# Altium schematic symbol library AltiumLibrary.SchLib: 67 symbols
Pins are listed as number, name and electrical type; pins without a type are passive.

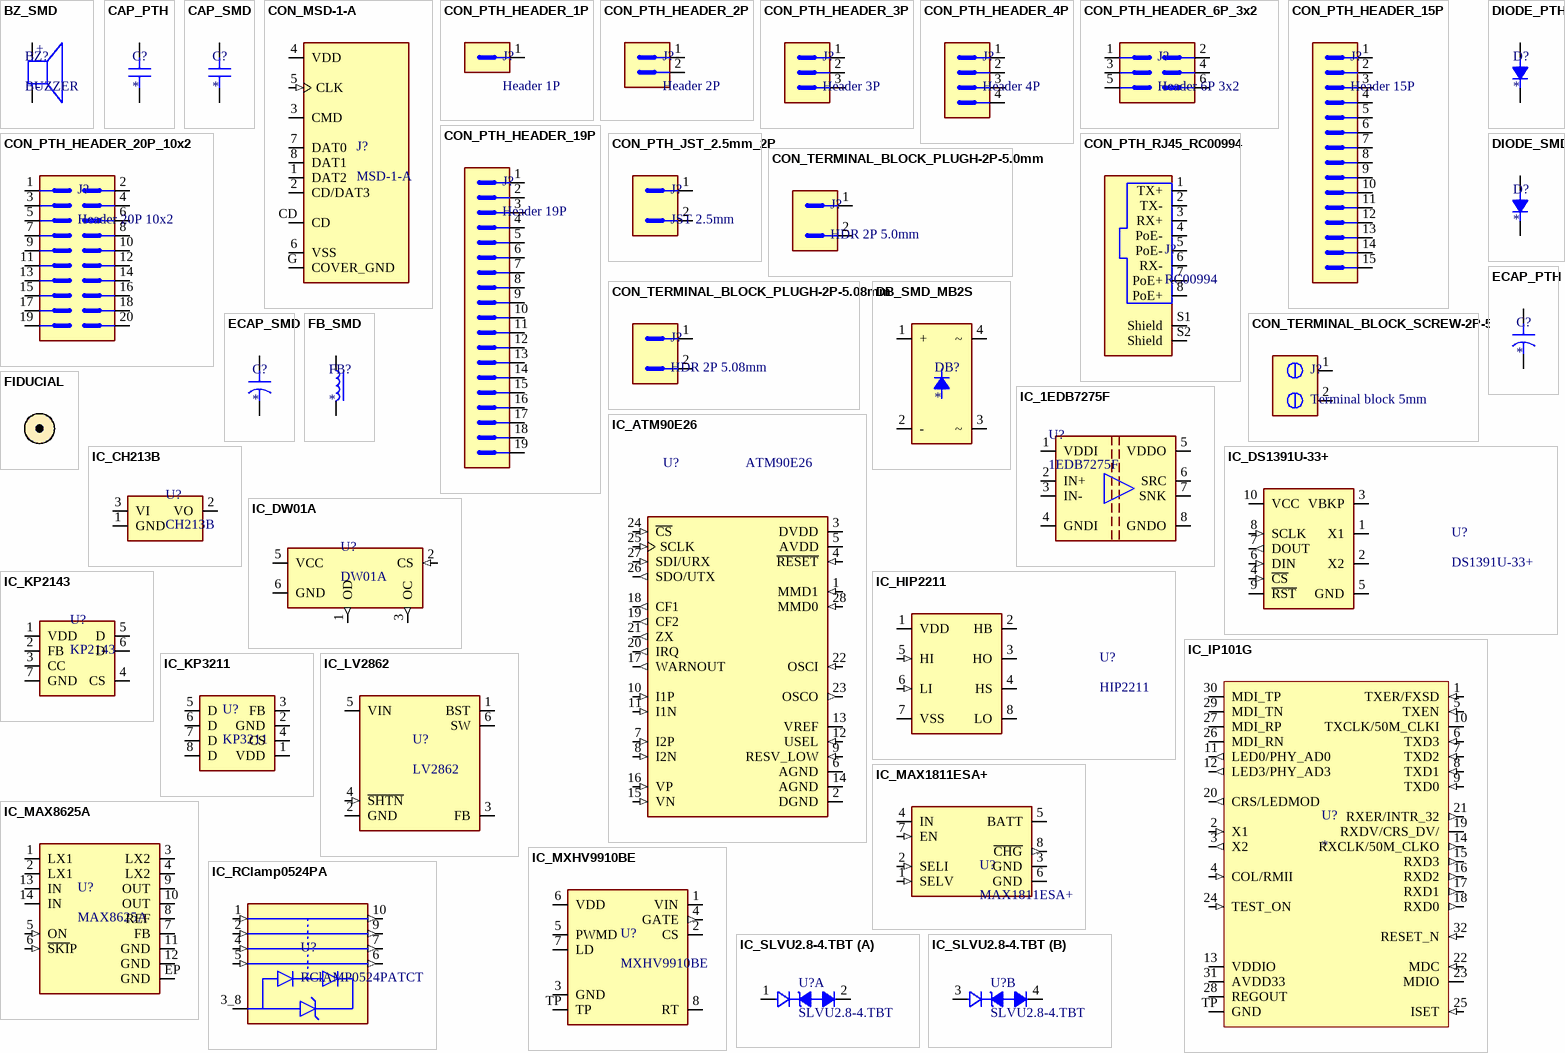
[diagram p0: symbols BZ_SMD to IC_SLVU2.8-4.TBT]

## BZ_SMD
designator BZ?, comment BUZZER
Buzzer SMD - Generic
footprint BZ_SMD_12x12mm (Buzzer SMD 12x12mm)
pins: N, P
text: +; -

## CAP_PTH
designator C?
Capacitor PTH - Generic
footprint CAP_PTH_5.08x3.2mm_5.08mm (PTH radial capacitor, 2-Leads, Body 5.08x3.2mm, 5.08 lead spacing)
pins: 1, 2

## CAP_SMD
designator C?
Capacitor SMD - Generic
footprint CAP_SMD_0603 (0603 Chip Capacitor, 2-Leads, Body 1,60x0,80mm, IPC Medium Density)
footprint CAP_SMD_1812 (1812 Chip Capacitor, 2-Leads, Body 4,5x3,2mm, IPC Medium Density)
footprint CAP_SMD_1206 (1206 Chip Capacitor, 2-Leads, Body 3,20x1,60mm, IPC Medium Density)
footprint CAP_SMD_1210 (1210 Chip Capacitor, 2-Leads, Body 3,20x2,50mm, IPC Medium Density)
footprint CAP_SMD_0805 (0805 Chip Capacitor, 2-Leads, Body 2x1,25mm, IPC Medium Density)
footprint CAP_SMD_CY_250Vac (Y safety capacitor non standard package 7.8x5.4x2.54mm)
pins: 1, 2

## CON_MSD-1-A
designator J?, comment MSD-1-A
Micro SD Card Connector, 9 Positions, Connector and Ejector, Push In, Auto Eject Out, Surface Mount, 1.8 mm Height Above Board, Gold Flash; MF: Same Sky; SnapEDA_Link: https://www.snapeda.com/parts/MSD-1-A/Same+Sky/view-part/?ref=snap; Package: None; Value: *; MP: MSD-1-A; Check_prices: https://www.snapeda.com/parts/MSD-1-A/Same+Sky/view-part/?ref=eda
footprint CON_MSD-1_CUD (MicroSD card slot)
pins: 1 DAT2 (io), 2 CD/DAT3 (io), 3 CMD (io), 4 VDD (power), 5 CLK (in), 6 VSS (power), 7 DAT0 (io), 8 DAT1 (io), CD, G COVER_GND (power)

## CON_PTH_HEADER_1P
designator J?, comment Header 1P
1P PTH pin header - Generic
footprint CON_PTH_1P_HEADER_2.54mm (1P PTH male pin header. 2.54mm pitch)
pins: 1

## CON_PTH_HEADER_2P
designator J?, comment Header 2P
2P PTH pin header - Generic
footprint CON_PTH_2P_HEADER_2.54mm (2P PTH male pin header. 2.54mm pitch)
pins: 1, 2

## CON_PTH_HEADER_3P
designator J?, comment Header 3P
3P PTH pin header - Generic
footprint CON_PTH_3P_HEADER_2.54mm (3P PTH male pin header. 2.54mm pitch)
pins: 1, 2, 3

## CON_PTH_HEADER_4P
designator J?, comment Header 4P
4P PTH pin header - Generic
footprint CON_PTH_4P_HEADER_2.54mm (4P PTH male pin header. 2.54mm pitch)
footprint CON_PTH_4P_HEADER_2.54mm_90 (4P PTH male pin header. 2.54mm pitch 90 degrees)
pins: 1, 2, 3, 4

## CON_PTH_HEADER_6P_3x2
designator J?, comment Header 6P 3x2
3x2 6P PTH pin header - Generic
footprint CON_PTH_6P_HEADER_3x2_2.54mm (3x2 6P PTH male pin header. 2.54mm pitch)
pins: 1, 2, 3, 4, 5, 6

## CON_PTH_HEADER_15P
designator J?, comment Header 15P
15P PTH pin header - Generic
footprint CON_PTH_15P_HEADER_2.54mm (15P PTH male pin header. 2.54mm pitch)
pins: 1, 2, 3, 4, 5, 6, 7, 8, 9, 10, 11, 12, 13, 14, 15

## CON_PTH_HEADER_19P
designator J?, comment Header 19P
19P PTH pin header - Generic
footprint CON_PTH_19P_HEADER_2.54mm (19P PTH male pin header. 2.54mm pitch)
pins: 1, 2, 3, 4, 5, 6, 7, 8, 9, 10, 11, 12, 13, 14, 15, 16, 17, 18, 19

## CON_PTH_HEADER_20P_10x2
designator J?, comment Header 20P 10x2
10x2 20P PTH pin header - Generic
footprint CON_PTH_20P_HEADER_10x2_2.54mm (10x2 20P PTH male pin header. 2.54mm pitch)
footprint CON_PTH_20P_HEADER_10x2_2.54mm_FEMALE (10x2 20P PTH female pin header. 2.54mm pitch)
pins: 1, 2, 3, 4, 5, 6, 7, 8, 9, 10, 11, 12, 13, 14, 15, 16, 17, 18, 19, 20

## CON_PTH_JST_2.5mm_2P
designator J?, comment JST 2.5mm
2.5mm pitch 2P JST connector
footprint CON_JST_S2B-XH-A
pins: 1, 2

## CON_PTH_RJ45_RC00994
designator J?, comment RC00994
RC00994 RJ45 connector - No LEDs
footprint CON_PTH_RJ45_RC00994 (RC00994 RJ45 Connector)
pins: 1 TX+, 2 TX-, 3 RX+, 4 PoE-, 5 PoE-, 6 RX-, 7 PoE+, 8 PoE+, S1 Shield, S2 Shield

## CON_TERMINAL_BLOCK_PLUGH-2P-5.0mm
designator J?, comment HDR 2P 5.0mm
5.0mm pitch 2P plugin terminal block
footprint CON_TERM_BLOCK_HDR_2POS_5MM - duplicate (2 Position Terminal Block Header, Male Pins, Shrouded (4 Side) 5.0mm 90°, Right Angle Through Hole)
pins: 1, 2

## CON_TERMINAL_BLOCK_PLUGH-2P-5.08mm
designator J?, comment HDR 2P 5.08mm
5.08mm pitch 2P plugin terminal block
footprint CON_TERM_BLOCK_HDR_2POS_5.08MM (2 Position Terminal Block Header, Male Pins, Shrouded (4 Side) 0.200" (5.08mm) 90°, Right Angle Through Hole)
pins: 1, 2

## CON_TERMINAL_BLOCK_SCREW-2P-5mm
designator J?, comment Terminal block 5mm
5mm pitch 2P screw terminal block
footprint CON_SCREW_5mm
pins: 1, 2

## DB_SMD_MB2S
designator DB?
200V 0.5A Miniature Glass Passivated Fast Recovery Surface-Mount Bridge Rectifier; MF: Fortune Semiconductor; MP: DW01A; SnapEDA_Link: https://www.snapeda.com/parts/DW01A/Fortune+Semiconductor/view-part/?ref=snap; Package: SOT-23-6 Fortune Semiconductor; Value: *; Check_prices: https://www.snapeda.com/parts/DW01A/Fortune+Semiconductor/view-part/?ref=eda
footprint IC_MBS
pins: 1 + (power), 2 - (power), 3 ~ (power), 4 ~ (power)

## DIODE_PTH
designator D?
PTH diode - Generic
footprint D_PTH_DO41_10mm (Generic DO41 PTH diode - 10.08mm lead spacing)
pins: A, K

## DIODE_SMD
designator D?
SMD diode - Generic
footprint D_SMD_SMA (Molded Diode, 2-Leads, Body 5,20x2,73mm, IPC Medium Density)
footprint IC_TO252 (Generic TO252 package 6.35x9.4mm); pin to pad A>1+3 K>2
footprint D_SMD_SMC
footprint D_SMD_SOD323
footprint D_SMD_SOD123W
pins: A, K

## ECAP_PTH
designator C?
Electrolytic Capacitor PTH - Generic
footprint CAP_PTH_10x16H_L (Electrolytic Capacitor 10mm Dia x 16mm - Radial Thru Hole - Horizontal - Negative left side)
footprint CAP_PTH_10x16H_R (Electrolytic Capacitor 10mm Dia x 16mm - Radial Thru Hole - Horizontal - Negative right side)
footprint CAP_PTH_8x16H_R (Electrolytic Capacitor 8mm Dia x 16mm - Radial Thru Hole - Horizontal - Negative right side)
footprint CAP_PTH_8x16H_L (Electrolytic Capacitor 8mm Dia x 16mm - Radial Thru Hole - Horizontal - Negative left side)
footprint CAP_PTH_6x12H_L (Electrolytic Capacitor 6mm Dia x 12mm - Radial Thru Hole - Horizontal - Negative left side)
footprint CAP_PTH_6x12H_R (Electrolytic Capacitor 6mm Dia x 12mm - Radial Thru Hole - Horizontal - Negative right side)
pins: 1, 2

## ECAP_SMD
designator C?
Electrolytic Capacitor SMD - Generic
footprint CAP_SMD_8x13H_L (Electrolytic Capacitor 8mm Dia x 13mm - Radial SMD soldered - Horizontal - Negative left side)
footprint CAP_SMD_8x13H_R (Electrolytic Capacitor 8mm Dia x 13mm - Radial SMD soldered - Horizontal - Negative right side)
footprint CAP_SMD_D6.3xL8_E83 (Aluminum Electrolytic Capacitor, Body D6.3mm x L8.00mm, IPC Low Density)
pins: 1, 2

## FB_SMD
designator FB?
Ferrite bead SMD - Generic
footprint FB_SMD_0805 (0805 Ferrite Bead, 2-Leads, Body 2,00x1,20mm, IPC Medium Density)
pins: 1, 2

## FIDUCIAL
designator *  (value not drawn)  (no BOM)
1mm fiducial marker
footprint FIDUCIAL

## IC_1EDB7275F
designator U?, comment 1EDB7275F
Single-channel isolated gate driver ICs in 150 mil DSO package; Datasheet: https://g.recomcdn.com/media/Datasheet/pdf/.fr9r4tDZ/.tfbaaea98a77234de645a/Datasheet-8/RK_RH.pdf
footprint IC_SOIC8 (Generic SOIC8 package)
pins: 1 VDDI, 2 IN+, 3 IN-, 4 GNDI, 5 VDDO, 6 SRC, 7 SNK, 8 GNDO

## IC_ATM90E26
designator U?, comment ATM90E26
Single phase Metering IC SSOP-28; PartGroup: Integrated Circuits,MCU, MPU, DSP,Other; Manufacturer: ATMEL; Value: ATM90E26; MPN: ATM90E26; ComponentLink1Description: Datasheet; ComponentLink1URL: http://www.microchip.com/mymicrochip/filehandler.aspx?ddocname=en590041; Cod: *
footprint IC_SSOP28 (SSOP-28 Package)
pins: 1 MMD1 (in), 2 DGND (power), 3 DVDD (power), 4 ~{RESET} (in), 5 AVDD (power), 6 AGND (power), 7 I2P (in), 8 I2N (in), 9 RESV_LOW (in), 10 I1P (in), 11 I1N (in), 12 USEL (in), 13 VREF (power), 14 AGND (power), 15 VN (in), 16 VP (in), 17 WARNOUT (out), 18 CF1 (out), 19 CF2 (out), 20 IRQ (out), 21 ZX (out), 22 OSCI (in), 23 OSCO (out), 24 ~{CS} (in), 25 SCLK (in), 26 SDO/UTX (out), 27 SDI/URX (in), 28 MMD0 (in)

## IC_CH213B
designator U?, comment CH213B
5V*0.5A low voltage drop diode chip CH213; ComponentLink1Description: Datasheet; ComponentLink1URL: https://akizukidenshi.com/goodsaffix/CH213.pdf
footprint IC_SOT23
pins: 1 GND (power), 2 VO (power), 3 VI (power)

## IC_DS1391U-33+
designator U?, comment DS1391U-33+
Low-Voltage SPI/3-Wire RTCs with Trickle Charger; Datasheet: https://www.analog.com/media/en/technical-documentation/data-sheets/DS1390-DS1394.pdf
footprint IC_uSOP10_3x3mm (TSSOP, 10-Leads, Body 2,95x3,00mm, Pitch 0,50mm, IPC Medium Density)
pins: 1 X1, 2 X2, 3 VBKP (power), 4 ~{CS} (in), 5 GND (power), 6 DIN (in), 7 DOUT (out), 8 SCLK (in), 9 ~{RST} (oc), 10 VCC (power)

## IC_DW01A
designator U?, comment DW01A
One Cell Lithium-ion/Polymer Battery Protection IC; MF: Fortune Semiconductor; SnapEDA_Link: https://www.snapeda.com/parts/DW01A/Fortune+Semiconductor/view-part/?ref=snap; Package: SOT-23-6 Fortune Semiconductor; Value: *; MP: DW01A; Check_prices: https://www.snapeda.com/parts/DW01A/Fortune+Semiconductor/view-part/?ref=eda
footprint IC_SOT23_6
pins: 1 OD (out), 2 CS (in), 3 OC (out), 5 VCC (power), 6 GND (power)

## IC_HIP2211
designator U?, comment HIP2211
100V, 3A Source, 4A Sink, High Frequency Half-Bridge Drivers with HI/LI; Datasheet: https://www.analog.com/media/en/technical-documentation/data-sheets/DS1390-DS1394.pdf
footprint IC_TDFN10 (Generic TDFN10 package 4x4mm)
pins: 1 VDD (power), 2 HB (power), 3 HO, 4 HS, 5 HI (in), 6 LI (in), 7 VSS (power), 8 LO

## IC_IP101G
designator U?
Single Port 10/100 MII/RMII/TP/Fiber Fast Ethernet Transceiver
footprint IC_QFN32_4x4
pins: 1 TXER/FXSD (in), 2 X1 (in), 3 X2 (out), 4 COL/RMII (in), 5 TXEN (in), 6 TXD3 (in), 7 TXD2 (in), 8 TXD1 (in), 9 TXD0 (in), 10 TXCLK/50M_CLKI (io), 11 LED0/PHY_AD0  (out), 12 LED3/PHY_AD3 (out), 13 VDDIO, 14 RXCLK/50M_CLKO (out), 15 RXD3 (out), 16 RXD2 (out), 17 RXD1 (out), 18 RXD0 (out), 19 RXDV/CRS_DV/ (io), 20 CRS/LEDMOD (out), 21 RXER/INTR_32 (out), 22 MDC (in), 23 MDIO (io), 24 TEST_ON (in), 25 ISET (in), 26 MDI_RN (io), 27 MDI_RP (io), 28 REGOUT, 29 MDI_TN (io), 30 MDI_TP (io), 31 AVDD33, 32 RESET_N (in), TP GND

## IC_KP2143
designator U?, comment KP2143
Multi-mode, constant voltage and constant current primary-side control power switch with high-voltage start-up; Datasheet: https://www.lcsc.com/datasheet/C2692153.pdf?spm=wm.fly.bg.0.pdf&lcsc_vid=FVlYAwBeFlJWBFQERQIMUlIARABcUwBRRARcVFQHQ1AxVlNeRlFcUFBRRllbVzsOAxUeFF5JWBYZEEoKFBINSQcJGk4NBhADEA4cHktXR1FdSQwSGg0%3D
footprint IC_SOIC7 (Generic SOIC7 package)
pins: 1 VDD, 2 FB, 3 CC, 4 CS, 5 D, 6 D, 7 GND

## IC_KP3211
designator U?, comment KP3211
KP3211 High Performance Low Cost Off-line PWM Power Switch; Datasheet: https://taoic.oss-cn-hangzhou.aliyuncs.com/7860/product/xiaoliu888_1621658385000.pdf
footprint IC_SOIC8
pins: 1 VDD, 2 GND, 3 FB, 4 CS, 5 D, 6 D, 7 D, 8 D

## IC_LV2862
designator U?, comment LV2862
Buck converter controller; Datasheet: https://www.littelfuse.com/assetdocs/littelfuse-integrated-circuits-mxhv9910-datasheet?assetguid=0135616d-093f-45d8-8766-b0e533f2ef99
footprint IC_SOT23_6
pins: 1 BST (power), 2 GND (power), 3 FB, 4 ~{SHTN} (in), 5 VIN (power), 6 SW

## IC_MAX1811ESA+
designator U?, comment MAX1811ESA+
IC BATT CHG LI-ION 1CELL 8SOIC; Datasheet: https://www.analog.com/media/en/technical-documentation/data-sheets/max1811.pdf
footprint IC_SOIC8
pins: 1 SELV (in), 2 SELI (in), 3 GND (power), 4 IN (power), 5 BATT (power), 6 GND (power), 7 EN (in), 8 ~{CHG} (out)

## IC_MAX8625A
designator U?, comment MAX8625A
High-Efficiency, Seamless Transition, Step-Up/Down DC-DC Converter
footprint IC_TDFN14 (Generic TDFN14 package 3x3mm)
pins: 1 LX1, 2 LX1, 3 LX2, 4 LX2, 5 ON (in), 6 ~{SKI}P (in), 7 FB, 8 REF, 9 OUT (power), 10 OUT (power), 11 GND, 12 GND, 13 IN (power), 14 IN (power), EP GND

## IC_MXHV9910BE
designator U?, comment MXHV9910BE
Off-Line, High Brightness LED Driver; Datasheet: https://www.littelfuse.com/assetdocs/littelfuse-integrated-circuits-mxhv9910-datasheet?assetguid=0135616d-093f-45d8-8766-b0e533f2ef99
footprint IC_SOIC8_TP (Generic SOIC8 package with thermal pad)
pins: 1 VIN (power), 2 CS, 3 GND (power), 4 GATE (out), 5 PWMD, 6 VDD (power), 7 LD, 8 RT, TP (power)

## IC_RClamp0524PA
designator U?, comment RClAMP0524PATCT
Ultra Low Capacitance TVS Array
footprint IC_SLP2510P8
pins: 1 IN1 (in), 2 IN2 (in), 3_8 GROUND (power), 4 IN4 (in), 5 IN5 (in), 6 OUT6 (out), 7 OUT7 (out), 9 OUT9 (out), 10 OUT10 (out)

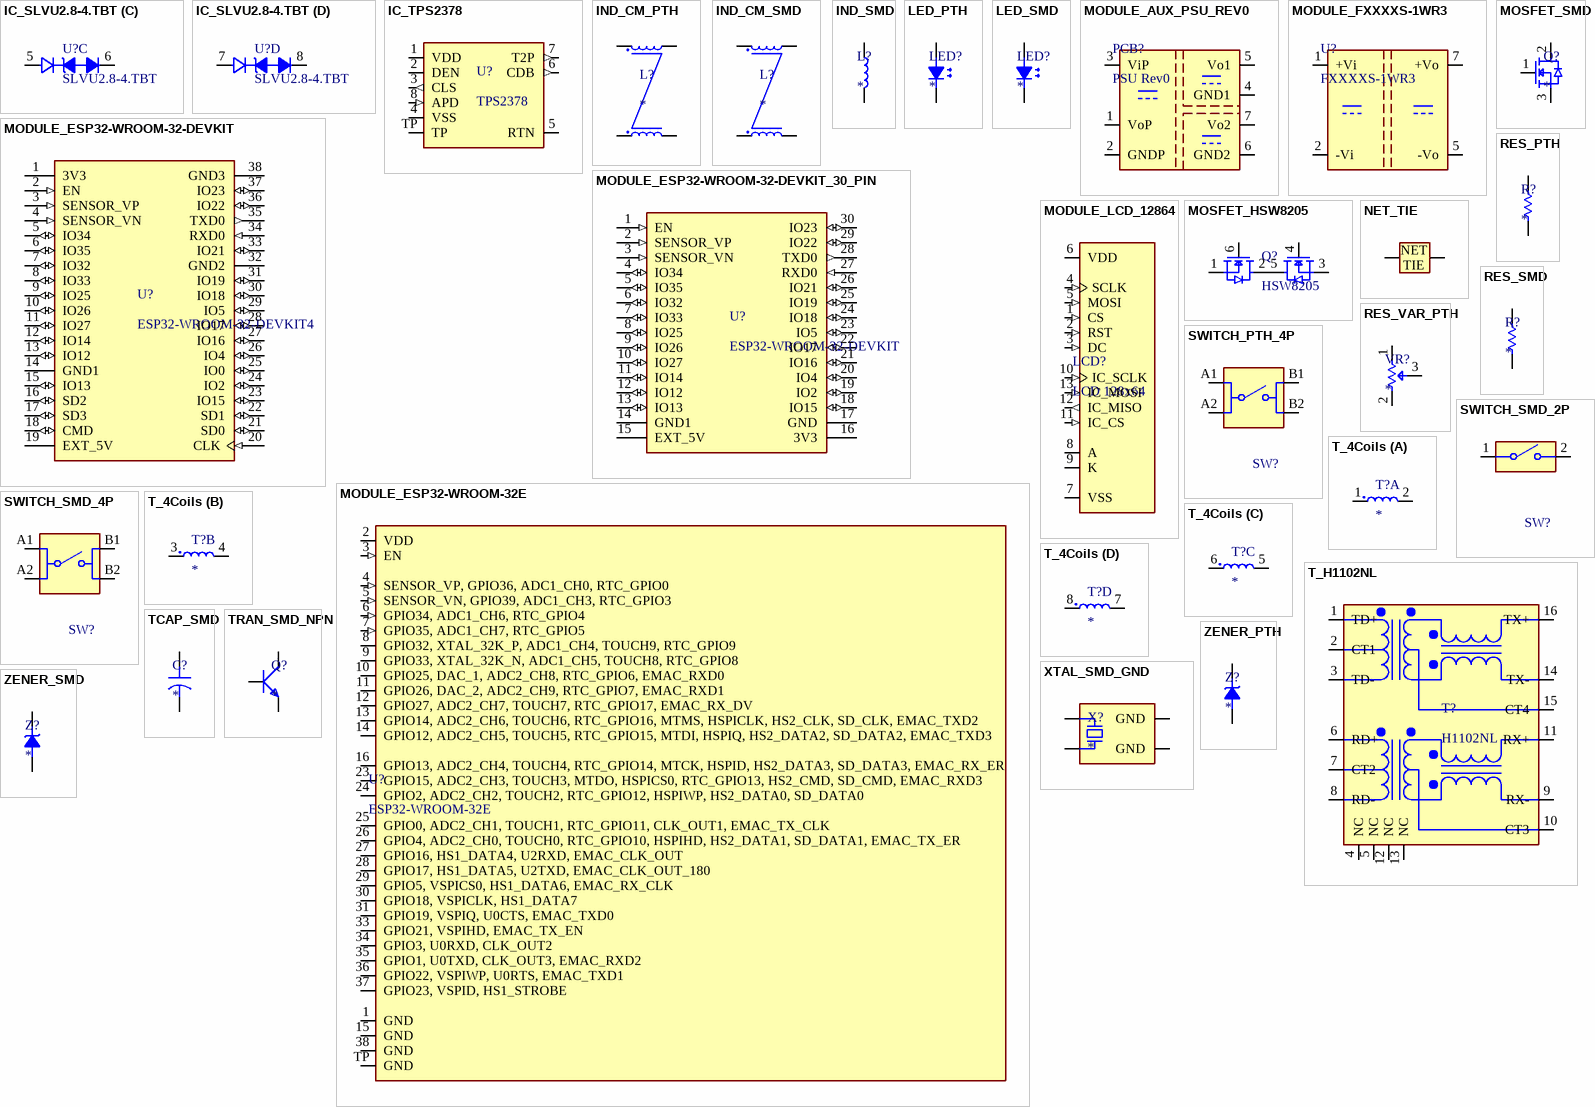
[diagram p1: symbols IC_SLVU2.8-4.TBT to ZENER_SMD]

## IC_SLVU2.8-4.TBT
designator U?, comment SLVU2.8-4.TBT
15V Clamp 24A (8/20µs) Ipp Tvs Diode Surface Mount 8-SO; MF: Semtech Corporation; SnapEDA_Link: https://www.snapeda.com/parts/SLVU2.8-4.TBT/Semtech/view-part/?ref=snap; Package: SOIC-8 Semtech; Value: *; MP: SLVU2.8-4.TBT; Check_prices: https://www.snapeda.com/parts/SLVU2.8-4.TBT/Semtech/view-part/?ref=eda
footprint IC_SOIC8 (Generic SOIC8 package)
part A pins: 1, 2
part B pins: 3, 4
part C pins: 5, 6
part D pins: 7, 8

## IC_TPS2378
designator U?, comment TPS2378
IEEE 802.3at PoE High-Power PD Interface; MF: Fortune Semiconductor; MP: DW01A; SnapEDA_Link: https://www.snapeda.com/parts/DW01A/Fortune+Semiconductor/view-part/?ref=snap; Package: SOT-23-6 Fortune Semiconductor; Value: *; Check_prices: https://www.snapeda.com/parts/DW01A/Fortune+Semiconductor/view-part/?ref=eda
footprint IC_SOIC8_TP (Generic SOIC8 package with thermal pad)
pins: 1 VDD (power), 2 DEN (io), 3 CLS (out), 4 VSS (power), 5 RTN, 6 CDB (out), 7 T2P (out), 8 APD (in), TP (power)

## IND_CM_PTH
designator L?
Common mode inductor PTH- Generic
footprint IND_CM_PTH_10x6x5 (Toroidal common mode choke - 10x6x5 core)
pins: 1, 2, 3, 4

## IND_CM_SMD
designator L?
Common mode inductor SMD - Generic
footprint IND_CM_SMD13x13x5.5 (CR7915-AL common mode choke)
pins: 1, 2, 3, 4

## IND_SMD
designator L?
Inductor SMD - Generic
footprint IND_SMD7.1x6.6x5 (Precision Wire Wound Inductor, 2-Leads, Body 7,10x6,60mm, IPC Medium Density)
footprint IND_SMD3x3x1.2mm
footprint IND_SMD12.5x12.5x6 (Wire Wound Inductor, 2-Leads)
pins: 1, 2

## LED_PTH
designator LED?
LED PTH - Generic
footprint LED-PTH-3mm-10mm (Generic PTH LED. 3mm diameter, 10mm height)
footprint LED_PTH_5mm (Generic PTH LED. 5mm diameter)
pins: A, K

## LED_SMD
designator LED?
LED SMD - Generic
footprint LED_SMD_0805
footprint LED_SMD_0603
pins: A, K

## MODULE_AUX_PSU_REV0
designator PCB?, comment PSU Rev0
GEDRE auxiliary power supply - 3 outputs; Datasheet: https://g.recomcdn.com/media/Datasheet/pdf/.fr9r4tDZ/.tfbaaea98a77234de645a/Datasheet-8/RK_RH.pdf
footprint MODULE_AUX_PSU_REV0 (GEDRE Auxiliary Power Suppy - 3 Outputs)
pins: 1 VoP, 2 GNDP, 3 ViP, 4 GND1, 5 Vo1, 6 GND2, 7 Vo2

## MODULE_ESP32-WROOM-32-DEVKIT
designator U?, comment ESP32-WROOM-32-DEVKIT4
WROOM-32 Development Board ESP32 ESP-32S WiFi Bluetooth Dev Module; MF: Espressif Systems; MP: DEVKIT V1 ESP32-WROOM-32; SnapEDA_Link: https://www.snapeda.com/parts/DEVKIT%20V1%20ESP32-WROOM-32/Espressif+Systems/view-part/?ref=snap; Package: Package; Value: *; Check_prices: https://www.snapeda.com/parts/DEVKIT%20V1%20ESP32-WROOM-32/Espressif+Systems/view-part/?ref=eda
footprint MODULE_ESP32-WROOM-32_DEVKIT
footprint MODULE_ESP32-WROOM-32_DEVKIT_2
pins: 1 3V3 (power), 2 EN (in), 3 SENSOR_VP (in), 4 SENSOR_VN (in), 5 IO34 (io), 6 IO35 (io), 7 IO32 (io), 8 IO33 (io), 9 IO25 (io), 10 IO26 (io), 11 IO27 (io), 12 IO14 (io), 13 IO12 (io), 14 GND1 (power), 15 IO13 (io), 16 SD2 (io), 17 SD3 (io), 18 CMD (io), 19 EXT_5V (power), 20 CLK (in), 21 SD0 (io), 22 SD1 (io), 23 IO15 (io), 24 IO2 (io), 25 IO0 (io), 26 IO4 (io), 27 IO16 (io), 28 IO17 (io), 29 IO5 (io), 30 IO18 (io), 31 IO19 (io), 32 GND2 (power), 33 IO21 (io), 34 RXD0 (in), 35 TXD0 (out), 36 IO22 (io), 37 IO23 (io), 38 GND3 (power)

## MODULE_ESP32-WROOM-32-DEVKIT_30_PIN
designator U?, comment ESP32-WROOM-32-DEVKIT
30 pin WROOM-32 Development Board ESP32 ESP-32S WiFi Bluetooth Dev Module; MF: Espressif Systems; MP: DEVKIT V1 ESP32-WROOM-32; SnapEDA_Link: https://www.snapeda.com/parts/DEVKIT%20V1%20ESP32-WROOM-32/Espressif+Systems/view-part/?ref=snap; Package: Package; Value: *; Check_prices: https://www.snapeda.com/parts/DEVKIT%20V1%20ESP32-WROOM-32/Espressif+Systems/view-part/?ref=eda
footprint MODULE_ESP32-WROOM-32_DEVKIT_30PIN
pins: 1 EN (in), 2 SENSOR_VP (in), 3 SENSOR_VN (in), 4 IO34 (io), 5 IO35 (io), 6 IO32 (io), 7 IO33 (io), 8 IO25 (io), 9 IO26 (io), 10 IO27 (io), 11 IO14 (io), 12 IO12 (io), 13 IO13 (io), 14 GND1 (power), 15 EXT_5V (power), 16 3V3 (power), 17 GND (power), 18 IO15 (io), 19 IO2 (io), 20 IO4 (io), 21 IO16 (io), 22 IO17 (io), 23 IO5 (io), 24 IO18 (io), 25 IO19 (io), 26 IO21 (io), 27 RXD0 (in), 28 TXD0 (out), 29 IO22 (io), 30 IO23 (io)

## MODULE_ESP32-WROOM-32E
designator U?, comment ESP32-WROOM-32E
RX TXRX MOD WIFI TRACE ANT SMD; MF: Espressif Systems; Package: SMD-44 Espressif Systems; Value: *; MP: ESP32-WROOM-32E; Datasheet: https://datasheet.octopart.com/ESP32-WROOM-32E-%284MB%29-Espressif-Systems-datasheet-151884363.pd
footprint IC_ESP32-WROOM-32E
footprint IC_ESP32-WROOM-32UE-H4
pins: 1 GND (power), 2 VDD (power), 3 EN (in), 4 SENSOR_VP, GPIO36, ADC1_CH0, RTC_GPIO0 (in), 5 SENSOR_VN, GPIO39, ADC1_CH3, RTC_GPIO3 (in), 6 GPIO34, ADC1_CH6, RTC_GPIO4 (in), 7 GPIO35, ADC1_CH7, RTC_GPIO5 (in), 8 GPIO32, XTAL_32K_P, ADC1_CH4, TOUCH9, RTC_GPIO9 (io), 9 GPIO33, XTAL_32K_N, ADC1_CH5, TOUCH8, RTC_GPIO8 (io), 10 GPIO25, DAC_1, ADC2_CH8, RTC_GPIO6, EMAC_RXD0 (io), 11 GPIO26, DAC_2, ADC2_CH9, RTC_GPIO7, EMAC_RXD1 (io), 12 GPIO27, ADC2_CH7, TOUCH7, RTC_GPIO17, EMAC_RX_DV (io), 13 GPIO14, ADC2_CH6, TOUCH6, RTC_GPIO16, MTMS, HSPICLK, HS2_CLK, SD_CLK, EMAC_TXD2 (io), 14 GPIO12, ADC2_CH5, TOUCH5, RTC_GPIO15, MTDI, HSPIQ, HS2_DATA2, SD_DATA2, EMAC_TXD3 (io), 15 GND (power), 16 GPIO13, ADC2_CH4, TOUCH4, RTC_GPIO14, MTCK, HSPID, HS2_DATA3, SD_DATA3, EMAC_RX_ER (io), 23 GPIO15, ADC2_CH3, TOUCH3, MTDO, HSPICS0, RTC_GPIO13, HS2_CMD, SD_CMD, EMAC_RXD3 (io), 24 GPIO2, ADC2_CH2, TOUCH2, RTC_GPIO12, HSPIWP, HS2_DATA0, SD_DATA0 (io), 25 GPIO0, ADC2_CH1, TOUCH1, RTC_GPIO11, CLK_OUT1, EMAC_TX_CLK (io), 26 GPIO4, ADC2_CH0, TOUCH0, RTC_GPIO10, HSPIHD, HS2_DATA1, SD_DATA1, EMAC_TX_ER (io), 27 GPIO16, HS1_DATA4, U2RXD, EMAC_CLK_OUT (io), 28 GPIO17, HS1_DATA5, U2TXD, EMAC_CLK_OUT_180 (io), 29 GPIO5, VSPICS0, HS1_DATA6, EMAC_RX_CLK (io), 30 GPIO18, VSPICLK, HS1_DATA7 (io), 31 GPIO19, VSPIQ, U0CTS, EMAC_TXD0 (io), 33 GPIO21, VSPIHD, EMAC_TX_EN (io), 34 GPIO3, U0RXD, CLK_OUT2 (io), 35 GPIO1, U0TXD, CLK_OUT3, EMAC_RXD2 (io), 36 GPIO22, VSPIWP, U0RTS, EMAC_TXD1 (io), 37 GPIO23, VSPID, HS1_STROBE (io), 38 GND (power), TP GND (power)

## MODULE_FXXXXS-1WR3
designator U?, comment FXXXXS-1WR3
FXXXXS-1WR3 isolated power supply series; Datasheet: https://g.recomcdn.com/media/Datasheet/pdf/.fr9r4tDZ/.tfbaaea98a77234de645a/Datasheet-8/RK_RH.pdf
footprint MODULE_PTH_SIP_19.5x6 (SIP 19.5x6mm power supply module)
pins: 1 +Vi, 2 -Vi, 5 -Vo, 7 +Vo

## MODULE_LCD_12864
designator LCD?, comment LCD 128x64
Generic LCD display with ST7565 controller; ComponentLink1Description: https://www.aliexpress.com/item/1005006160620381.html; ComponentLink1URL: *
footprint LCD_12864 (9.24)
pins: 1 CS (in), 2 RST (in), 3 DC (in), 4 SCLK (in), 5 MOSI (in), 6 VDD (power), 7 VSS (power), 8 A (power), 9 K (power), 10 IC_SCLK (in), 11 IC_CS (in), 12 IC_MISO (out), 13 IC_MOSI (in)

## MOSFET_HSW8205
designator Q?, comment HSW8205
2 N-Channel SOT-23-6 MOSFETs; Datasheet: https://lcsc.com/datasheet/lcsc_datasheet_2410121531_HUASHUO-HSW8205_C518798.pdf
footprint IC_SOT23_6
pins: 1 S1, 2 D1, 3 S2, 4 G2, 5 D2, 6 G1

## MOSFET_SMD
designator Q?
MOSFET SMD - Generic
footprint IC_TO252 (Generic TO252 package 6.35x9.4mm)
pins: 1 G1, 2 D1, 3 S1

## NET_TIE
designator NT?  (value not drawn)  (net tie, no BOM)
Generic Net Tie
footprint NET_TIE (Generic net tie)
pins: 1, 2
text: NET / TIE

## RES_PTH
designator R?
Resistor PTH - Generic
footprint RES_PTH_AXIAL_1/4W_10mm (1/4W PTH Resistor - 10.16mm lead spacing)
pins: 1, 2

## RES_SMD
designator R?
Resistor SMD - Generic
footprint RES_SMD_0603 (0603 Chip Resistor, 2-Leads, Body 1,60x0,80mm, IPC Medium Density)
footprint RES_SMD_1206 (1206 Chip Resistor, 2-Leads, Body 3.1x1.55mm, IPC Medium Density)
footprint RES_SMD_0805 (0805 Chip Resistor, 2-Leads, Body 2,00x1,25mm, IPC Medium Density)
footprint RES_SMD_2512 (2512 Chip Resistor, 2-Leads, Body 6.3x3.3mm, IPC Medium Density)
pins: 1, 2

## RES_VAR_PTH
designator VR?
Variable resistor PTH - Generic
footprint RES_VAR_PTH_POTENTIOMETER (PTH potentiometer)
pins: 1, 2, 3

## SWITCH_PTH_4P
designator SW?
PTH Switch - 4 terminals - Generic
footprint SWITCH_PTH_6x6_5MM (PTH Tact Switch, body 6x6 mm, 5mm height)
pins: A1, A2, B1, B2

## SWITCH_SMD_2P
designator SW?
SMD switch - 2 contacts - Generic
footprint SWITCH_SMD_4x2.9mm
pins: 1, 2

## SWITCH_SMD_4P
designator SW?
SMD Switch - 4 terminals - Generic
footprint SWITCH_SMD_6x6_13MM (SMD Tact Switch, body 6x6 mm, 13mm height)
pins: A1, A2, B1, B2

## T_4Coils
designator T?
Generic 4 coils transformer
footprint IND_SMD_EFD15 (EFD15 SMD inductor 8 leads)
part A pins: 1, 2
part B pins: 3, 4
part C pins: 5, 6
part D pins: 7, 8

## T_H1102NL
designator T?, comment H1102NL
Isolation and Data Interface (Encapsulated) Pulse Transformer 1:1 Transmitter, 1:1 Receiver Surface Mount; SnapEDA_Link: https://www.snapeda.com/parts/H1102NL/Pulse/view-part/?ref=snap; Package: Non Standard Pulse; Value: *; MF: Pulse; MP: H1102NL; Check_prices: https://www.snapeda.com/parts/H1102NL/Pulse/view-part/?ref=eda
footprint T_SMD_H1102NL (350uH 100M LAN Transformer 1:1 Surface Mount-16P,12.7x7mm)
pins: 1 TD+, 2 CT1, 3 TD-, 4 NC, 5 NC, 6 RD+, 7 CT2, 8 RD-, 9 RX-, 10 CT3, 11 RX+, 12 NC, 13 NC, 14 TX-, 15 CT4, 16 TX+

## TCAP_SMD
designator C?
Tantalum Capacitor SMD - Generic
footprint CAP_SMD_TANT_3528 (Tantalum Capacitor SMD 3528 Case)
pins: 1, 2

## TRAN_SMD_NPN
designator Q?
SMD transistor NPN - Generic
footprint IC_SOT23 (Generic SOT23 package)
pins: 1 B, 2 E, 3 C

## XTAL_SMD_GND
designator X?
SMD Crystal with GND - Generic
footprint XTAL_SMD_3525 (SMD Crystal 3.5x2.5x0.7mm)
footprint XTAL_SMD_MC146 (MC146 SMD Crystal)
pins: 1, 2 GND, 3, 4 GND

## ZENER_PTH
designator Z?
PTH zener diode - Generic
footprint D_PTH_DO41_10mm (Generic DO41 PTH diode - 10.08mm lead spacing)
pins: A, K

## ZENER_SMD
designator Z?
SMD zener diode - Generic
footprint D_SMD_SOD123W
footprint D_SMD_SMA (Molded Diode, 2-Leads, Body 5,20x2,73mm, IPC Medium Density)
pins: A, K